# EAGLE library part ICP-20100 (library tdk)
High Accuracy, Low Power, Barometric Pressure and Temperature Sensor IC
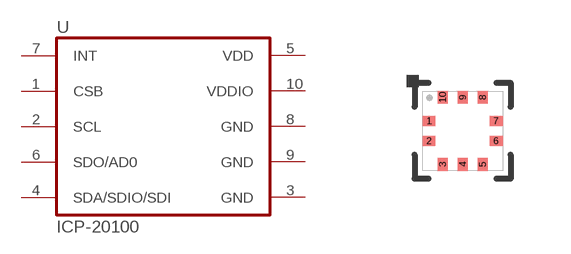
[diagram p0: symbol with the pads of LGA2X2; footprint LGA2X2]

Designator prefix U

## ICP-20100  [LGA2X2]
1  CSB
2  SCL
3  GND  pwr
4  SDA/SDIO/SDI
5  VDD  pwr
6  SDO/AD0
7  INT  out
8  GND  pwr
9  GND  pwr
10  VDDIO  pwr

## Footprint LGA2X2 (pad centres in mm)
ICP-20100 recommended PCB land pattern
smd 0.325 x 0.25: 1 -0.838,0.25; 2 -0.838,-0.25; 6 0.838,-0.25; 7 0.838,0.25
smd 0.25 x 0.325: 3 -0.5,-0.838; 4 0,-0.838; 5 0.5,-0.838; 8 0.5,0.838; 9 0,0.838; 10 -0.5,0.838